# Altium footprint library PCBLIB.PcbLib: 24 footprints (part 2 of 2)
Each footprint in its own frame and in the unit in brackets; x right, y up, seen from the top. Pads: shape width x height; smd on the part's side, far side on the other; paste and mask are expansions set on the pad; w line width, h text height; cw(c..) or ccw(c..) is an arc to the next point about the centre after c.
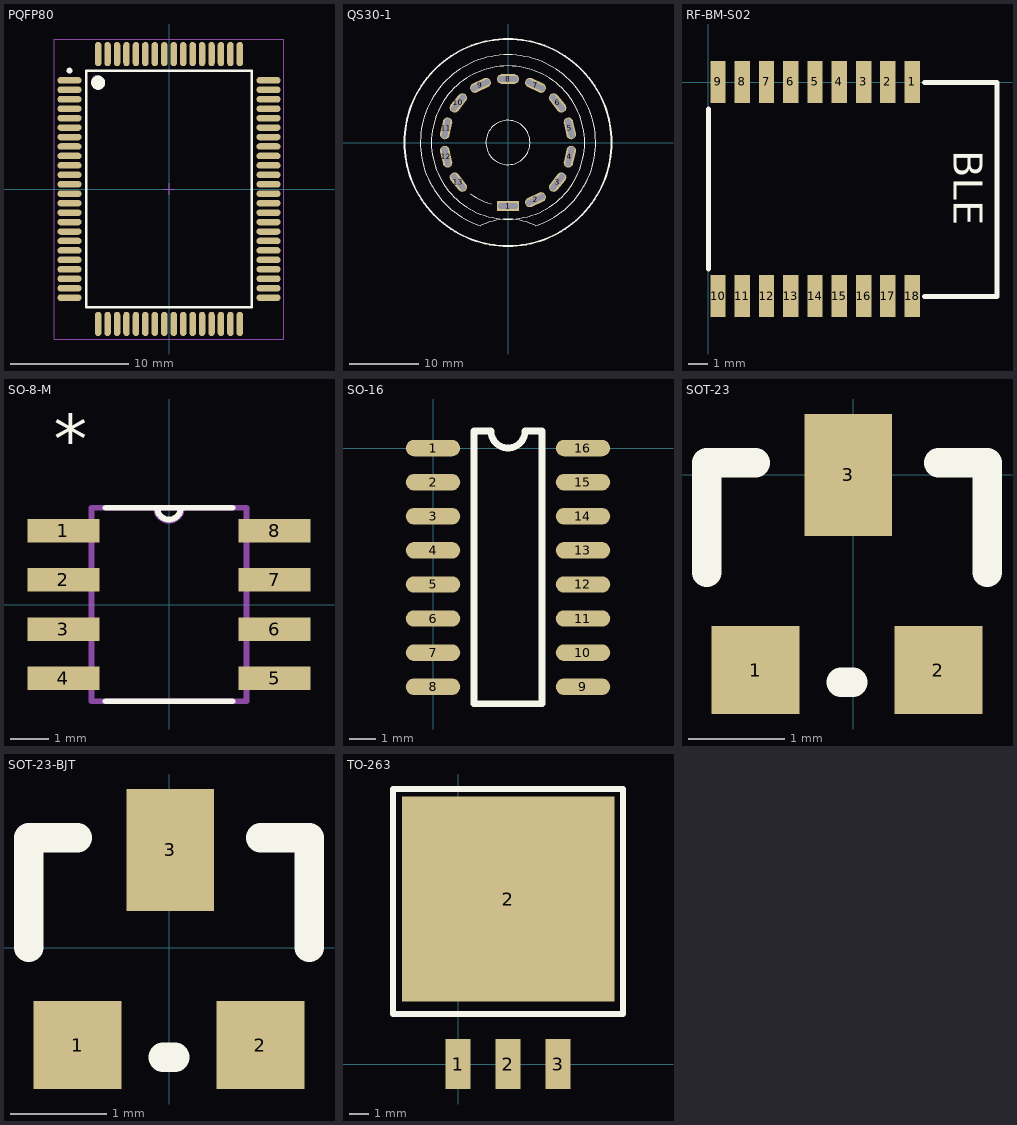
[diagram p1: the footprints below, top view; thin cyan lines are the x and y axes]

## PQFP80 [mm] "QFP, 80-Leads, Body 14.00x20.00mm, Pitch 0.80mm, IPC Medium Density"
height 3.4
pads (80):
  oval 2.05x0.55 smd: 1(-8.425,9.2) 2(-8.425,8.4) 3(-8.425,7.6) 4(-8.425,6.8) 5(-8.425,6) 6(-8.425,5.2) 7(-8.425,4.4) 8(-8.425,3.6) 9(-8.425,2.8) 10(-8.425,2) 11(-8.425,1.2) 12(-8.425,0.4) 13(-8.425,-0.4) 14(-8.425,-1.2) 15(-8.425,-2) 16(-8.425,-2.8) 17(-8.425,-3.6) 18(-8.425,-4.4) 19(-8.425,-5.2) 20(-8.425,-6) 21(-8.425,-6.8) 22(-8.425,-7.6) 23(-8.425,-8.4) 24(-8.425,-9.2) 41(8.425,-9.2) 42(8.425,-8.4) 43(8.425,-7.6) 44(8.425,-6.8) 45(8.425,-6) 46(8.425,-5.2) 47(8.425,-4.4) 48(8.425,-3.6) 49(8.425,-2.8) 50(8.425,-2) 51(8.425,-1.2) 52(8.425,-0.4) 53(8.425,0.4) 54(8.425,1.2) 55(8.425,2) 56(8.425,2.8) 57(8.425,3.6) 58(8.425,4.4) 59(8.425,5.2) 60(8.425,6) 61(8.425,6.8) 62(8.425,7.6) 63(8.425,8.4) 64(8.425,9.2)
  oval 0.55x2.05 smd: 25(-6,-11.425) 26(-5.2,-11.425) 27(-4.4,-11.425) 28(-3.6,-11.425) 29(-2.8,-11.425) 30(-2,-11.425) 31(-1.2,-11.425) 32(-0.4,-11.425) 33(0.4,-11.425) 34(1.2,-11.425) 35(2,-11.425) 36(2.8,-11.425) 37(3.6,-11.425) 38(4.4,-11.425) 39(5.2,-11.425) 40(6,-11.425) 65(6,11.425) 66(5.2,11.425) 67(4.4,11.425) 68(3.6,11.425) 69(2.8,11.425) 70(2,11.425) 71(1.2,11.425) 72(0.4,11.425) 73(-0.4,11.425) 74(-1.2,11.425) 75(-2,11.425) 76(-2.8,11.425) 77(-3.6,11.425) 78(-4.4,11.425) 79(-5.2,11.425) 80(-6,11.425)
Top Overlay:
  circle w0.6: c-6,9 r0.3
  circle w0.25: c-8.425,10.025 r0.125
  lines w0.2: -7,-10 7,-10 7,10 -7,10 -7,-10
Mechanical 13:
  circle w0.1: c-6.1,9.1 r0.5
  lines w0.1: -7,-10 7,-10 7,10 -7,10 -7,-10
Mechanical 15:
  lines w0.05: -9.7,-12.7 9.7,-12.7 9.7,12.7 -9.7,12.7 -9.7,-12.7
  lines w0.1: -0.5,0 0.5,0 ; 0,-0.5 0,0.5
3D body: height 3.4, standoff 0.25, extent -7,-10 7,10

## QS30-1 [mm]
height 0.6
pads (13):
  rect 3.2x1.4 hole 0.8 slot 2.9 at 0 deg: 1(0,-9.2)
  oval 3.2x1.4 hole 0.8 slot 2.9 at 25.71 deg rot 25.71: 2(3.992,-8.289) 9(-3.992,8.289)
  oval 3.2x1.4 hole 0.8 slot 2.9 at 51.43 deg rot 51.43: 3(7.193,-5.736) 10(-7.193,5.736)
  oval 3.2x1.4 hole 0.8 slot 2.9 at 77.14 deg rot 77.14: 4(8.969,-2.047) 11(-8.969,2.047)
  oval 3.2x1.4 hole 0.8 slot 2.9 at 106.06 deg rot 102.86: 5(8.969,2.047)
  oval 3.2x1.4 hole 0.8 slot 2.9 at 128.57 deg rot 128.57: 6(7.193,5.736) 13(-7.193,-5.736)
  oval 3.2x1.4 hole 0.8 slot 2.9 at 154.29 deg rot 154.29: 7(3.992,8.289)
  oval 3.2x1.4 hole 0.8 slot 2.9 at 0 deg: 8(0,9.2)
  oval 3.2x1.4 hole 0.8 slot 2.9 at 102.86 deg rot 102.86: 12(-8.969,-2.047)
Top Overlay:
  circle w0.127: c0,0 r11.1
  circle w0.127: c0,0 r3.2
  circle w0.254: c0,0 r15
  lines w0.127: -5.462,-7.403 ccw(c0,0) -2.442,-8.87 ; -3.988,-12.07 cw(c0,-19.784) 3.988,-12.07 ; -3.986,-12.058 cw(c0,0) 3.986,-12.058

## RF-BM-S02 [mm]
pads (18):
  rect 0.8x2.2 smd: 1(10.66,0.024) 2(9.39,0.024) 3(8.12,0.024) 4(6.85,0.024) 5(5.58,0.024) 6(4.31,0.024) 7(3.04,0.024) 8(1.77,0.024) 9(0.5,0.024) 10(0.5,-11.176) 11(1.77,-11.176) 12(3.04,-11.176) 13(4.31,-11.176) 14(5.58,-11.176) 15(6.85,-11.176) 16(8.12,-11.176) 17(9.39,-11.176) 18(10.66,-11.176)
Top Overlay:
  lines w0.254: 0,-9.779 0,-1.397 ; 11.303,-11.2 15.1,-11.2 15.1,0 11.303,0
  text "BLE" at 12.827,-3.556 h1.52

## SO-8-M [mil]
height 69
pads (8):
  rect 73x24 smd: 1(-107.5,75) 2(-107.5,25) 3(-107.5,-25) 4(-107.5,-75) 5(107.5,-75) 6(107.5,-25) 7(107.5,25) 8(107.5,75)
Top Overlay:
  lines w6: -64.73,-98.5 64.73,-98.5 ; -64.73,98.5 64.73,98.5 ; -12,98.5 ccw(c0,98.5) 12,98.5
  text "*" at -117.5,144 h50
Mechanical 1:
  lines w0: -12,98.5 ccw(c0,98.5) 12,98.5 ; -122,-85 -79,-85 -79,-65 -122,-65 -122,-85 ; -122,-35 -79,-35 -79,-15 -122,-15 -122,-35 ; -122,15 -79,15 -79,35 -122,35 -122,15 ; -122,65 -79,65 -79,85 -122,85 -122,65 ; -79,-98.5 -79,98.5 79,98.5 79,-98.5 -79,-98.5 ; 79,-85 122,-85 122,-65 79,-65 79,-85 ; 79,-35 122,-35 122,-15 79,-15 79,-35 ; 79,15 122,15 122,35 79,35 79,15 ; 79,65 122,65 122,85 79,85 79,65
  lines w6: -13.17,98.5 ccw(c0,98.5) 13.17,98.5 ; -79,-98.5 79,-98.5 79,98.5 -79,98.5 -79,-98.5
  text "*" at -117.5,144 h50

## SO-16 [mil]
pads (16):
  oval 80x24 smd: 1(0,0) 2(0,-50) 3(0,-100) 4(0,-150) 5(0,-200) 6(0,-250) 7(0,-300) 8(0,-350) 9(220,-350) 10(220,-300) 11(220,-250) 12(220,-200) 13(220,-150) 14(220,-100) 15(220,-50) 16(220,0)
Top Overlay:
  lines w10: 60,-375 160,-375 160,25 135,25 cw(c110,25) 85,25 60,25 60,-375

## SOT-23 [mil]
pads (3):
  rect 36x36 smd: 1(-40,-80) 2(35,-80)
  rect 36x50 smd: 3(-2,0)
Top Overlay:
  lines w12: -60,-40 -60,5 -40,5 ; -5,-85 0,-85 ; 35,5 55,5 55,-40

## SOT-23-BJT [mil]
pads (3):
  rect 36x36 smd: 1(-37.5,-40) 2(37.5,-40)
  rect 36x50 smd: 3(0.5,40)
Top Overlay:
  lines w12: -57.5,0 -57.5,45 -37.5,45 ; -2.5,-45 2.5,-45 ; 37.5,45 57.5,45 57.5,0

## TO-263 [mil]
pads (4):
  rect 50x100 smd: 1(0,0) 2(100,0) 3(200,0)
  rect 425x410 smd: 2(100,330)
Top Overlay:
  lines w11.81: -130,100 -130,550 330,550 330,100 -130,100